# Altium schematic symbol library Maxim MAX8212.SchLib: 1 symbol
Pins are listed as number, name and electrical type; pins without a type are passive.

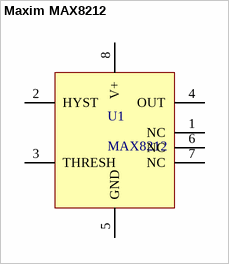
[diagram p0: symbol Maxim MAX8212]

## Maxim MAX8212
designator U1, comment MAX8212
Supplier 1: Digi-Key; Supplier Part Number 1: MAX8212CSA+-ND
footprint Maxim MAX8212 (MFG: MAX8212CSA+ Digikey:  MAX8212CSA+-ND)
pins: 1 NC, 2 HYST, 3 THRESH, 4 OUT, 5 GND, 6 NC, 7 NC, 8 V+